# Altium footprint library Project.PcbLib: 46 footprints (part 3 of 3)
Each footprint in its own frame and in the unit in brackets; x right, y up, seen from the top. Pads: shape width x height; smd on the part's side, far side on the other; paste and mask are expansions set on the pad; w line width, h text height; cw(c..) or ccw(c..) is an arc to the next point about the centre after c.
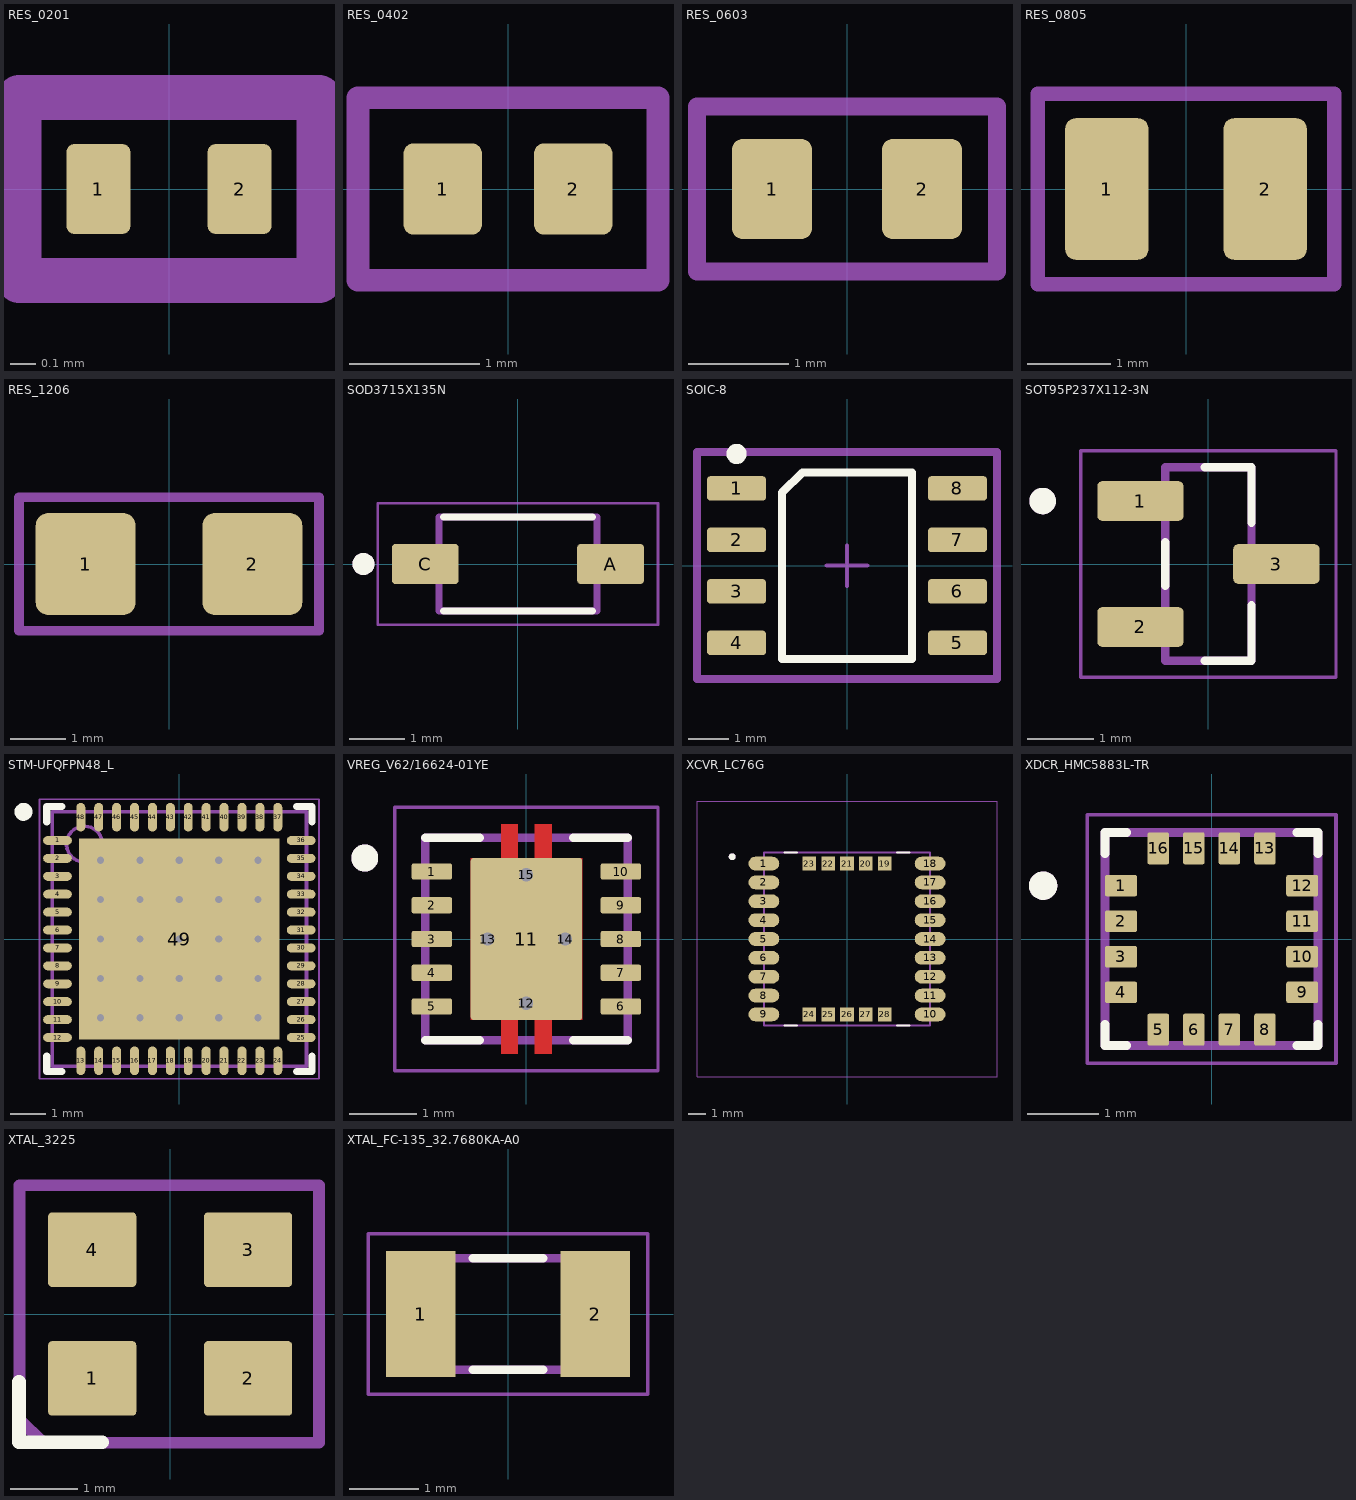
[diagram p2: the footprints below, top view; thin cyan lines are the x and y axes]

## RES_0201 [mm]
pads (2):
  rrect25% 0.25x0.35 smd mask+0.05: 1(-0.275,0) 2(0.275,0)
Mechanical 13:
  lines w0.175: -0.584,-0.356 -0.584,0.356 0.584,0.356 0.584,-0.356 -0.584,-0.356
  text "'.Designator'" at -5.665,-0.417 h1
3D body "R0201.step": height 0.15, standoff 0, extent -0.3,-0.15 0.3,0.15

## RES_0402 [mm]
pads (2):
  rrect25% 0.6x0.7 smd: 1(-0.5,0) 2(0.5,0)
Mechanical 13:
  lines w0.175: -1.15,-0.7 -1.15,0.7 1.15,0.7 1.15,-0.7 -1.15,-0.7
  text "'.Designator'" at -5.665,-0.417 h1
3D body "R0402.step": height 0.3, standoff 0, extent -0.5,-0.25 0.5,0.25

## RES_0603 [mm]
pads (2):
  rrect25% 0.8x1 smd: 1(-0.75,0) 2(0.75,0)
Mechanical 13:
  lines w0.175: -1.5,-0.825 1.5,-0.825 1.5,0.825 -1.5,0.825 -1.5,-0.825
  text "'.Designator'" at -5.665,-0.417 h1
3D body "R0603.step": height 0.52, standoff 0.01, extent -0.8,-0.43 0.8,0.43

## RES_0805 [mm]
pads (2):
  rrect25% 1x1.7 smd: 1(-0.95,0) 2(0.95,0)
Mechanical 13:
  lines w0.175: -1.778,-1.143 1.778,-1.143 1.778,1.143 -1.778,1.143 -1.778,-1.143
  text "'.Designator'" at -5.665,-0.417 h1
3D body "R0805.step": height 0.47, standoff 0.01, extent -1,-0.63 1,0.63

## RES_1206 [mm]
pads (2):
  rrect25% 1.8x1.84 smd: 1(-1.5,0) 2(1.5,0)
Mechanical 13:
  lines w0.175: -2.7,-1.2 -2.7,1.2 2.7,1.2 2.7,-1.2 -2.7,-1.2
  text "'.Designator'" at -5.665,-0.417 h1
3D body "R1206.step": height 0.57, standoff 0.01, extent -1.6,-0.83 1.6,0.83

## SOD3715X135N [mm]
pads (2):
  rrect18% 1.21x0.73 smd: A(1.68,0) C(-1.68,0)
Top Overlay:
  circle w0.2: c-2.8,0 r0.1
  lines w0.127: -1.35,-0.85 1.35,-0.85 ; -1.35,0.85 1.35,0.85
Mechanical 13:
  circle w0.2: c-2.8,0 r0.1
  lines w0.127: -1.43,-0.85 1.43,-0.85 1.43,0.85 -1.43,0.85 -1.43,-0.85
Mechanical 15:
  lines w0.05: -2.54,-1.1 2.54,-1.1 2.54,1.1 -2.54,1.1 -2.54,-1.1
3D body "step_temp.STEP": height 0.74, standoff -0.71, extent -1.825,-0.775 1.825,0.775

## SOIC-8 [mm] "SOIC, 8-Leads, Body 4.91x3.90mm, Pitch 1.27mm, IPC Medium Density"
height 1.75
pads (8):
  rrect25% 1.45x0.6 smd: 1(-2.725,1.905) 2(-2.725,0.635) 3(-2.725,-0.635) 4(-2.725,-1.905) 5(2.725,-1.905) 6(2.725,-0.635) 7(2.725,0.635) 8(2.725,1.905)
Top Overlay:
  circle w0.25: c-2.725,2.755 r0.125
  lines w0.2: -1.6,-2.3 1.6,-2.3 1.6,2.3 -1.1,2.3 -1.6,1.8 -1.6,-2.3
Mechanical 13:
  circle w0.3: c-2.7,1.9 r0.12
  lines w0.2: -3.7,-2.8 3.7,-2.8 3.7,2.8 -3.7,2.8 -3.7,-2.8
  text "'.Designator'" at -6.315,-1.4 h1
Mechanical 15:
  lines w0.05: -3.7,-2.75 -3.7,2.75 3.7,2.75 3.7,-2.75 -3.7,-2.75
  lines w0.1: -0.5,0 0.5,0 ; 0,-0.5 0,0.5
3D body "SOIC-8.step": height 1.75, standoff 0, extent -2.997,-2.5 2.997,2.5

## SOT95P237X112-3N [mm]
height 1.12
pads (3):
  rrect25% 1.3x0.6 smd: 1(-1.025,0.95) 2(-1.025,-0.95) 3(1.025,0)
Top Overlay:
  circle w0.2: c-2.5,0.95 r0.1
  lines w0.127: -0.65,-0.33 -0.65,0.33 ; -0.055,-1.46 0.65,-1.46 0.65,-0.62 ; -0.055,1.46 0.65,1.46 0.65,0.62
Mechanical 13:
  circle w0.2: c-2.5,0.95 r0.1
  lines w0.127: -0.65,-1.46 -0.65,1.46 0.65,1.46 0.65,-1.46 -0.65,-1.46
Mechanical 15:
  lines w0.05: -1.925,-1.71 -1.925,1.71 1.925,1.71 1.925,-1.71 -1.925,-1.71
3D body "step_temp.STEP": height 1.12, standoff 0, extent -1.185,-1.46 1.185,1.46

## STM-UFQFPN48_L [mm] "QFN, 48-Leads, Body 7.1x7.1mm, Pitch 0.5mm, Thermal Pad 5.6x5.6mm, IPC High Density"
height 0.6
pads (49):
  oval 0.8x0.25 smd: 1(-3.4,2.75) 2(-3.4,2.25) 3(-3.4,1.75) 4(-3.4,1.25) 5(-3.4,0.75) 6(-3.4,0.25) 7(-3.4,-0.25) 8(-3.4,-0.75) 9(-3.4,-1.25) 10(-3.4,-1.75) 11(-3.4,-2.25) 12(-3.4,-2.75) 25(3.4,-2.75) 26(3.4,-2.25) 27(3.4,-1.75) 28(3.4,-1.25) 29(3.4,-0.75) 30(3.4,-0.25) 31(3.4,0.25) 32(3.4,0.75) 33(3.4,1.25) 34(3.4,1.75) 35(3.4,2.25) 36(3.4,2.75)
  oval 0.25x0.8 smd: 13(-2.75,-3.4) 14(-2.25,-3.4) 15(-1.75,-3.4) 16(-1.25,-3.4) 17(-0.75,-3.4) 18(-0.25,-3.4) 19(0.25,-3.4) 20(0.75,-3.4) 21(1.25,-3.4) 22(1.75,-3.4) 23(2.25,-3.4) 24(2.75,-3.4) 37(2.75,3.4) 38(2.25,3.4) 39(1.75,3.4) 40(1.25,3.4) 41(0.75,3.4) 42(0.25,3.4) 43(-0.25,3.4) 44(-0.75,3.4) 45(-1.25,3.4) 46(-1.75,3.4) 47(-2.25,3.4) 48(-2.75,3.4)
  rect 5.6x5.6 smd: 49(0,0)
via -2.2,2.2 diameter 0.5 hole 0.2
via -1.1,2.2 diameter 0.5 hole 0.2
via 0,2.2 diameter 0.5 hole 0.2
via 1.1,2.2 diameter 0.5 hole 0.2
via 2.2,2.2 diameter 0.5 hole 0.2
via -2.2,1.1 diameter 0.5 hole 0.2
via -1.1,1.1 diameter 0.5 hole 0.2
via 0,1.1 diameter 0.5 hole 0.2
via 1.1,1.1 diameter 0.5 hole 0.2
via 2.2,1.1 diameter 0.5 hole 0.2
via -2.2,0 diameter 0.5 hole 0.2
via -1.1,0 diameter 0.5 hole 0.2
via 0,0 diameter 0.5 hole 0.2
via 1.1,0 diameter 0.5 hole 0.2
via 2.2,0 diameter 0.5 hole 0.2
via -2.2,-1.1 diameter 0.5 hole 0.2
via -1.1,-1.1 diameter 0.5 hole 0.2
via 0,-1.1 diameter 0.5 hole 0.2
via 1.1,-1.1 diameter 0.5 hole 0.2
via 2.2,-1.1 diameter 0.5 hole 0.2
via -2.2,-2.2 diameter 0.5 hole 0.2
via -1.1,-2.2 diameter 0.5 hole 0.2
via 0,-2.2 diameter 0.5 hole 0.2
via 1.1,-2.2 diameter 0.5 hole 0.2
via 2.2,-2.2 diameter 0.5 hole 0.2
Top Overlay:
  circle w0.25: c-4.35,3.55 r0.125
  lines w0.2: -3.7,-3.275 -3.7,-3.7 -3.275,-3.7 ; -3.7,3.275 -3.7,3.7 -3.275,3.7 ; 3.275,-3.7 3.7,-3.7 3.7,-3.275 ; 3.275,3.7 3.7,3.7 3.7,3.275
Mechanical 13:
  circle w0.1: c-2.65,2.65 r0.5
  lines w0.1: -3.55,-3.55 -3.55,3.55 3.55,3.55 3.55,-3.55 -3.55,-3.55
Mechanical 15:
  lines w0.05: -3.9,-3.9 -3.9,3.9 3.9,3.9 3.9,-3.9 -3.9,-3.9
  lines w0.1: -0.5,0 0.5,0 ; 0,-0.5 0,0.5
3D body: height 0.6, standoff 0, extent -3.55,-3.55 3.55,3.55

## VREG_V62/16624-01YE [mm]
pads (15):
  rrect25% 0.6x0.24 smd mask+0: 1(-1.4,1) 2(-1.4,0.5) 3(-1.4,0) 4(-1.4,-0.5) 5(-1.4,-1) 6(1.4,-1) 7(1.4,-0.5) 8(1.4,0) 9(1.4,0.5) 10(1.4,1)
  rrect5% 1.65x2.4 smd paste-2 mask+0: 11(0,0)
  round 0.3 hole 0.2 mask+0: 12(0,-0.95) 13(-0.575,0) 14(0.575,0) 15(0,0.95)
Top Layer:
  region: 0.375,1.2 0.825,1.2 0.825,-1.2 0.375,-1.2 0.375,-1.7 0.125,-1.7 0.125,-1.2 -0.125,-1.2 -0.125,-1.7 -0.375,-1.7 -0.375,-1.2 -0.825,-1.2 -0.825,1.2 -0.375,1.2 -0.375,1.7 -0.125,1.7 -0.125,1.2 0.125,1.2 0.125,1.7 0.375,1.7
Top Overlay:
  circle w0.2: c-2.395,1.2 r0.1
  lines w0.127: -1.5,-1.5 -0.695,-1.5 ; -1.5,1.5 -0.695,1.5 ; 0.695,-1.5 1.5,-1.5 ; 0.695,1.5 1.5,1.5
Top Paste:
  region: -0.125,-1.7 -0.375,-1.7 -0.375,-1.36 -0.125,-1.36
  region: 0.375,-1.7 0.125,-1.7 0.125,-1.36 0.375,-1.36
  region: -0.125,1.36 -0.375,1.36 -0.375,1.7 -0.125,1.7
  region: 0.375,1.36 0.125,1.36 0.125,1.7 0.375,1.7
  region: 0.75,-1.16 -0.75,-1.16 -0.75,-0.1 0.75,-0.1
  region: 0.75,0.1 -0.75,0.1 -0.75,1.16 0.75,1.16
Top Solder:
  region: -1.03,0.81 -1.77,0.81 -1.77,1.19 -1.03,1.19
  region: -1.03,0.31 -1.77,0.31 -1.77,0.69 -1.03,0.69
  region: -1.03,-0.19 -1.77,-0.19 -1.77,0.19 -1.03,0.19
  region: -1.03,-0.69 -1.77,-0.69 -1.77,-0.31 -1.03,-0.31
  region: -1.03,-1.19 -1.77,-1.19 -1.77,-0.81 -1.03,-0.81
  region: 1.77,-1.19 1.03,-1.19 1.03,-0.81 1.77,-0.81
  region: 1.77,-0.69 1.03,-0.69 1.03,-0.31 1.77,-0.31
  region: 1.77,-0.19 1.03,-0.19 1.03,0.19 1.77,0.19
  region: 1.77,0.31 1.03,0.31 1.03,0.69 1.77,0.69
  region: 1.77,0.81 1.03,0.81 1.03,1.19 1.77,1.19
  region: 0.445,1.27 0.895,1.27 0.895,-1.27 0.445,-1.27 0.445,-1.77 0.055,-1.77 0.055,-1.27 -0.055,-1.27 -0.055,-1.77 -0.445,-1.77 -0.445,-1.27 -0.895,-1.27 -0.895,1.27 -0.445,1.27 -0.445,1.77 -0.055,1.77 -0.055,1.27 0.055,1.27 0.055,1.77 0.445,1.77
Mechanical 13:
  circle w0.2: c-2.395,1.2 r0.1
  lines w0.127: -1.5,-1.5 1.5,-1.5 1.5,1.5 -1.5,1.5 -1.5,-1.5
Mechanical 15:
  lines w0.05: -1.95,-1.95 1.95,-1.95 1.95,1.95 -1.95,1.95 -1.95,-1.95
3D body "step_temp.STEP": height 1, standoff 0, extent -1.5,-1.5 1.5,1.5

## XCVR_LC76G [mm]
height 2.7
pads (28):
  oval 1.8x0.8 smd: 1(-4.85,4.4) 2(-4.85,3.3) 3(-4.85,2.2) 4(-4.85,1.1) 5(-4.85,0) 6(-4.85,-1.1) 7(-4.85,-2.2) 8(-4.85,-3.3) 9(-4.85,-4.4) 10(4.85,-4.4) 11(4.85,-3.3) 12(4.85,-2.2) 13(4.85,-1.1) 14(4.85,0) 15(4.85,1.1) 16(4.85,2.2) 17(4.85,3.3) 18(4.85,4.4)
  rect 0.8x0.8 smd: 19(2.2,4.4) 20(1.1,4.4) 21(0,4.4) 22(-1.1,4.4) 23(-2.2,4.4) 24(-2.2,-4.4) 25(-1.1,-4.4) 26(0,-4.4) 27(1.1,-4.4) 28(2.2,-4.4)
Top Overlay:
  circle w0.2: c-6.7,4.8 r0.1
  lines w0.127: -3.63,-5.05 -2.92,-5.05 ; -3.63,5.05 -2.92,5.05 ; 2.92,-5.05 3.63,-5.05 ; 2.92,5.05 3.63,5.05
Mechanical 13:
  circle w0.2: c-6.7,4.8 r0.1
  lines w0.127: -4.85,-5.05 -4.85,5.05 4.85,5.05 4.85,-5.05 -4.85,-5.05
Mechanical 15:
  lines w0.05: -8.75,-8.05 8.75,-8.05 8.75,8.05 -8.75,8.05 -8.75,-8.05
3D body "step_temp.STEP": height 2.65, standoff 0, extent -4.85,-5.05 4.85,5.05

## XDCR_HMC5883L-TR [mm]
pads (16):
  rrect17% 0.45x0.3 smd: 1(-1.275,0.75) 2(-1.275,0.25) 3(-1.275,-0.25) 4(-1.275,-0.75) 9(1.275,-0.75) 10(1.275,-0.25) 11(1.275,0.25) 12(1.275,0.75)
  rrect17% 0.3x0.45 smd: 5(-0.75,-1.275) 6(-0.25,-1.275) 7(0.25,-1.275) 8(0.75,-1.275) 13(0.75,1.275) 14(0.25,1.275) 15(-0.25,1.275) 16(-0.75,1.275)
Top Overlay:
  circle w0.2: c-2.37,0.75 r0.1
  lines w0.127: -1.5,-1.2 -1.5,-1.5 -1.2,-1.5 ; -1.5,1.2 -1.5,1.5 -1.2,1.5 ; 1.2,-1.5 1.5,-1.5 1.5,-1.2 ; 1.2,1.5 1.5,1.5 1.5,1.2
Mechanical 13:
  circle w0.2: c-2.37,0.75 r0.1
  lines w0.127: -1.5,-1.5 -1.5,1.5 1.5,1.5 1.5,-1.5 -1.5,-1.5
Mechanical 15:
  lines w0.05: -1.75,-1.75 -1.75,1.75 1.75,1.75 1.75,-1.75 -1.75,-1.75
3D body "step_temp.STEP": height 0.9, standoff 0, extent -1.5,-1.5 1.5,1.5

## XTAL_3225 [mm]
pads (4):
  rrect10% 1.3x1.1 smd: 1(-1.15,-0.95) 2(1.15,-0.95) 3(1.15,0.95) 4(-1.15,0.95)
Top Overlay:
  lines w0.2: -2.231,-1 -2.231,-1.893 -1,-1.893
Mechanical 13:
  circle w0.254: c-1.15,-0.95 r0.112
  lines w0.175: -0.478,1.903 2.197,1.903 2.197,-1.9 -1.875,-1.9 -2.225,-1.55 -2.225,1.903 0.472,1.903
  text "'.Designator'" at -5.665,-0.417 h1
3D body "Y3225.step": height 0.61, standoff 0, extent -1.6,-1.275 1.6,1.225

## XTAL_FC-135_32.7680KA-A0 [mm]
pads (2):
  rect 1x1.8 smd: 1(-1.25,0) 2(1.25,0)
Top Overlay:
  lines w0.127: -0.5,-0.8 0.5,-0.8 ; -0.5,0.8 0.5,0.8
Mechanical 13:
  lines w0.127: -1.65,-0.8 -1.65,0.8 1.65,0.8 1.65,-0.8 -1.65,-0.8
Mechanical 15:
  lines w0.05: -2,-1.15 -2,1.15 2,1.15 2,-1.15 -2,-1.15
3D body "step_temp.STEP": height 0.9, standoff 0, extent -1.6,-0.75 1.6,0.75